# EAGLE library part LS390 (library decoder)
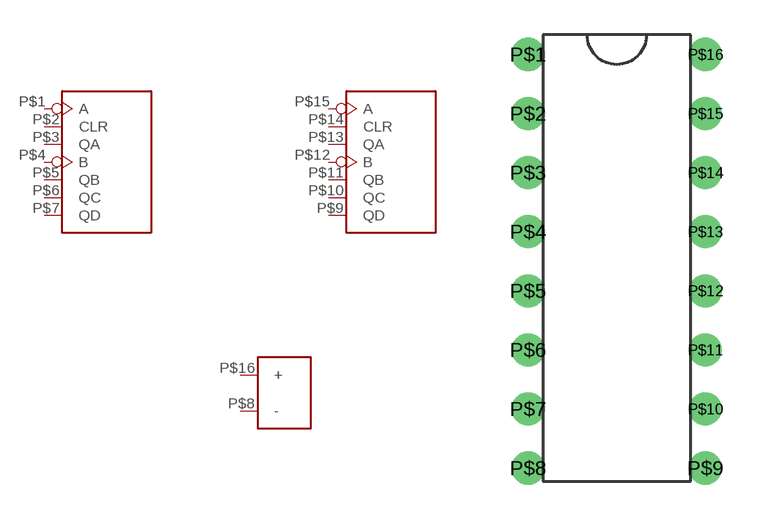
[diagram p0: symbol with the pads of DIP-16; footprint DIP-16]

Designator prefix -; gates G$1=1-3BITDECODER G$2=1-3BITDECODER G$3=POWER

## LS390  [DIP-16]
P$1  G$1:A
P$2  G$1:CLR
P$3  G$1:QA
P$4  G$1:B
P$5  G$1:QB
P$6  G$1:QC
P$7  G$1:QD
P$8  G$3:-  pwr
P$9  G$2:QD
P$10  G$2:QC
P$11  G$2:QB
P$12  G$2:B
P$13  G$2:QA
P$14  G$2:CLR
P$15  G$2:A
P$16  G$3:+  pwr

## Footprint DIP-16 (pad centres in mm)
drill 0.5 pad 1.422: P$1 -3.81,0; P$2 -3.81,-2.54; P$3 -3.81,-5.08; P$4 -3.81,-7.62; P$5 -3.81,-10.16; P$6 -3.81,-12.7; P$7 -3.81,-15.24; P$8 -3.81,-17.78; P$9 3.81,-17.78; P$10 3.81,-15.24; P$11 3.81,-12.7; P$12 3.81,-10.16; P$13 3.81,-7.62; P$14 3.81,-5.08; P$15 3.81,-2.54; P$16 3.81,0